# EAGLE library part MICROCHIP_RN2483 (library lora-lorawan-modules)
Microchip LoRaWAN module RN2483 <https://www.microchip.com/wwwproducts/en/RN2483> is the 868 MHz one and RN2903 <https://www.microchip.com/wwwproducts/en/RN2903> is the 915 MHz one
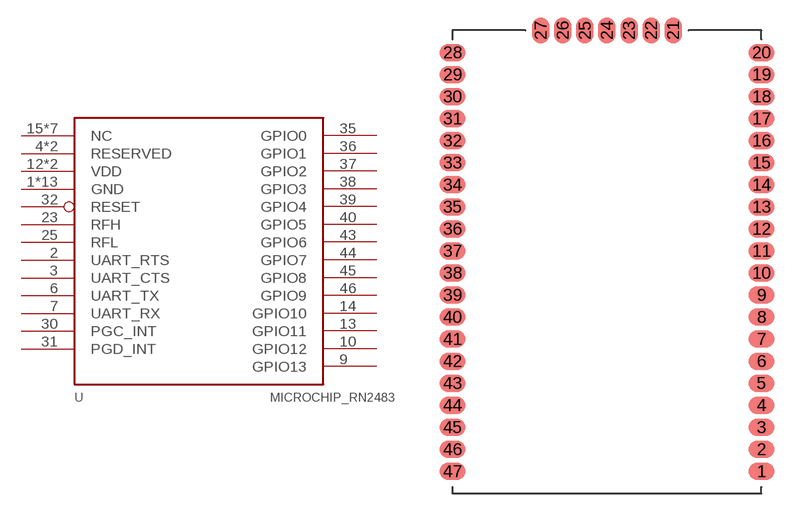
[diagram p6: symbol with the pads of MICROCHIP_RN2483; footprint MICROCHIP_RN2483]

Designator prefix -

## MICROCHIP_RN2483 (HEIGHT: 3; LENGT: 26.7; WIDTH: 17.8)  [MICROCHIP_RN2483]
1  GND  pwr
2  UART_RTS  out
3  UART_CTS  in
4  RESERVED  nc
5  RESERVED  nc
6  UART_TX  out
7  UART_RX  in
8  GND  pwr
9  GPIO13
10  GPIO12
11  GND  pwr
12  VDD  pwr
13  GPIO11
14  GPIO10
15  NC  nc
16  NC  nc
17  NC  nc
18  NC  nc
19  NC  nc
20  GND  pwr
21  GND  pwr
22  GND  pwr
23  RFH
24  GND  pwr
25  RFL
26  GND  pwr
27  GND  pwr
28  GND  pwr
29  NC  nc
30  PGC_INT
31  PGD_INT
32  RESET  in
33  GND  pwr
34  VDD  pwr
35  GPIO0
36  GPIO1
37  GPIO2
38  GPIO3
39  GPIO4
40  GPIO5
41  GND  pwr
42  NC  nc
43  GPIO6
44  GPIO7
45  GPIO8
46  GPIO9
47  GND  pwr

## Footprint MICROCHIP_RN2483 (pad centres in mm)
smd 1.524 x 1.016: 1 17.78,1.27; 2 17.78,2.54; 3 17.78,3.81; 4 17.78,5.08; 5 17.78,6.35; 6 17.78,7.62; 7 17.78,8.89; 8 17.78,10.16; 9 17.78,11.43; 10 17.78,12.7; 11 17.78,13.97; 12 17.78,15.24; 13 17.78,16.51; 14 17.78,17.78; 15 17.78,19.05; 16 17.78,20.32; 17 17.78,21.59; 18 17.78,22.86; 19 17.78,24.13; 20 17.78,25.4; 28 0,25.4; 29 0,24.13; 30 0,22.86; 31 0,21.59; 32 0,20.32; 33 0,19.05; 34 0,17.78; 35 0,16.51; 36 0,15.24; 37 0,13.97; 38 0,12.7; 39 0,11.43; 40 0,10.16; 41 0,8.89; 42 0,7.62; 43 0,6.35; 44 0,5.08; 45 0,3.81; 46 0,2.54; 47 0,1.27
smd 1.016 x 1.524: 21 12.7,26.67; 22 11.43,26.67; 23 10.16,26.67; 24 8.89,26.67; 25 7.62,26.67; 26 6.35,26.67; 27 5.08,26.67